# Altium footprint library Ind10uH.PcbLib: 1 footprints
Each footprint in its own frame and in the unit in brackets; x right, y up, seen from the top. Pads: shape width x height; smd on the part's side, far side on the other; paste and mask are expansions set on the pad; w line width, h text height; cw(c..) or ccw(c..) is an arc to the next point about the centre after c.
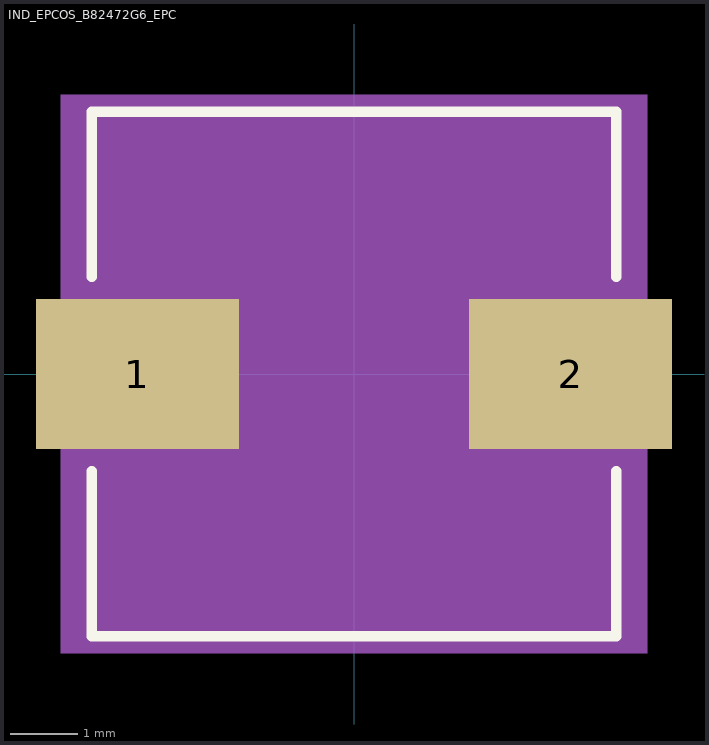
[diagram p0: the footprint, top view; thin cyan lines are the x and y axes]

## IND_EPCOS_B82472G6_EPC [mil]
pads (2):
  rect 118.11x87 smd paste+0 mask+0: 1(-126,0) 2(126,0)
Top Overlay:
  lines w6: -152.5,-56.6 -152.5,-152.5 152.5,-152.5 152.5,-56.6 ; -152.5,56.6 -152.5,152.5 152.5,152.5 152.5,56.6
Mechanical 5:
  region: 170.5,-162.5 -170.5,-162.5 -170.5,162.5 170.5,162.5
Mechanical 13:
  lines w1: -147.5,-147.5 -147.5,147.5 147.5,147.5 147.5,-147.5 -147.5,-147.5
Mechanical 15:
  region: -157.5,-53.5 -165.5,-53.5 -165.5,53.5 -157.5,53.5 -157.5,157.5 157.5,157.5 157.5,53.5 165.5,53.5 165.5,-53.5 157.5,-53.5 157.5,-157.5 -157.5,-157.5
  lines w6: -165.5,-53.5 -157.5,-53.5 -157.5,-157.5 157.5,-157.5 157.5,-53.5 165.5,-53.5 165.5,53.5 157.5,53.5 157.5,157.5 -157.5,157.5 -157.5,53.5 -165.5,53.5 -165.5,-53.5
3D body: height 10, standoff 0, extent 0,0 10,10
3D body "IND_EPCOS_B82472G6_EPC.step": height 177.09, standoff -0.12, extent -147.48,-147.59 147.48,147.6